# EAGLE library part 63100112021 (library Wuerth_Elektronik_eiCan_Communication_Connectors_v2.4)
WR-COM Horizontal Shielded Mini DIN, 6 Pins
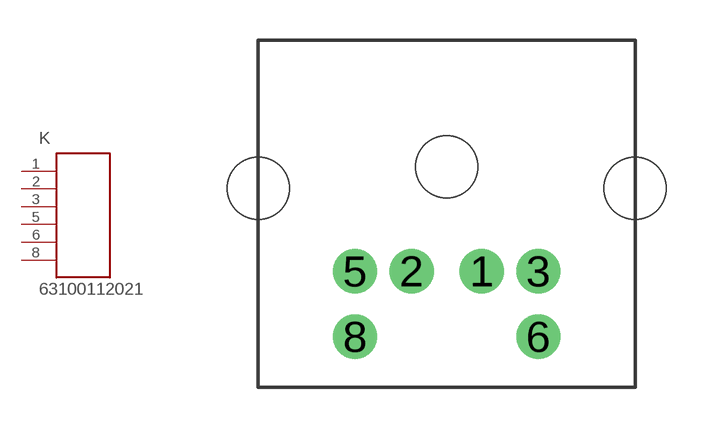
[diagram p0: symbol with the pads of 63100112021; footprint 63100112021]

Designator prefix K

## 63100112021  [63100112021]
1  1  pas
2  2  pas
3  3  pas
5  4  pas
6  5  pas
8  6  pas

## Footprint 63100112021 (pad centres in mm)
WR-COM Horizontal Shielded Mini DIN, 6 Pins
drill 1.1 round: 1 1.3,-8.56; 2 -1.3,-8.56; 3 3.405,-8.56; 5 -3.405,-8.56; 6 3.405,-10.99; 8 -3.405,-10.99
hole 2.3 at -7,-5.49
hole 2.3 at 0,-4.69
hole 2.3 at 7,-5.49